# EAGLE library part LCM-S01602DTR (library wicked-device)
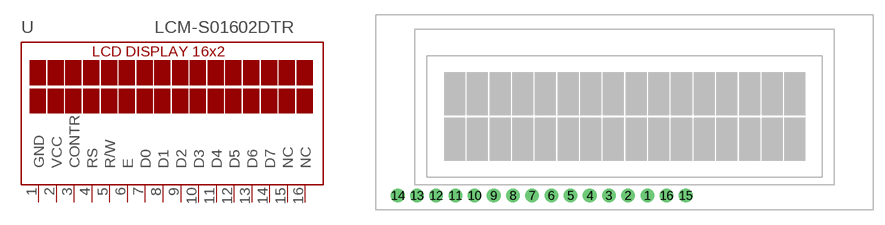
[diagram p5: symbol with the pads of LCM-S01602DTR/M; footprint LCM-S01602DTR/M]

Designator prefix -

## LCM-S01602DTR  [LCM-S01602DTR/M]
1  GND  pwr
2  VCC  pwr
3  CONTR  in
4  RS  in
5  R/W  in
6  E  in
7  D0  in
8  D1  in
9  D2  in
10  D3  in
11  D4  in
12  D5  in
13  D6  in
14  D7  in
15  NC  nc
16  NC  nc

## Footprint LCM-S01602DTR/M (pad centres in mm)
drill 1 pad 1.8: 1 36.02,2; 2 33.48,2; 3 30.94,2; 4 28.4,2; 5 25.86,2; 6 23.32,2; 7 20.78,2; 8 18.24,2; 9 15.7,2; 10 13.16,2; 11 10.62,2; 12 8.08,2; 13 5.54,2; 14 3,2; 15 41.1,2; 16 38.56,2